# Altium footprint library SLA7073MPRT.PcbLib: 1 footprints
Each footprint in its own frame and in the unit in brackets; x right, y up, seen from the top. Pads: shape width x height; smd on the part's side, far side on the other; paste and mask are expansions set on the pad; w line width, h text height; cw(c..) or ccw(c..) is an arc to the next point about the centre after c.
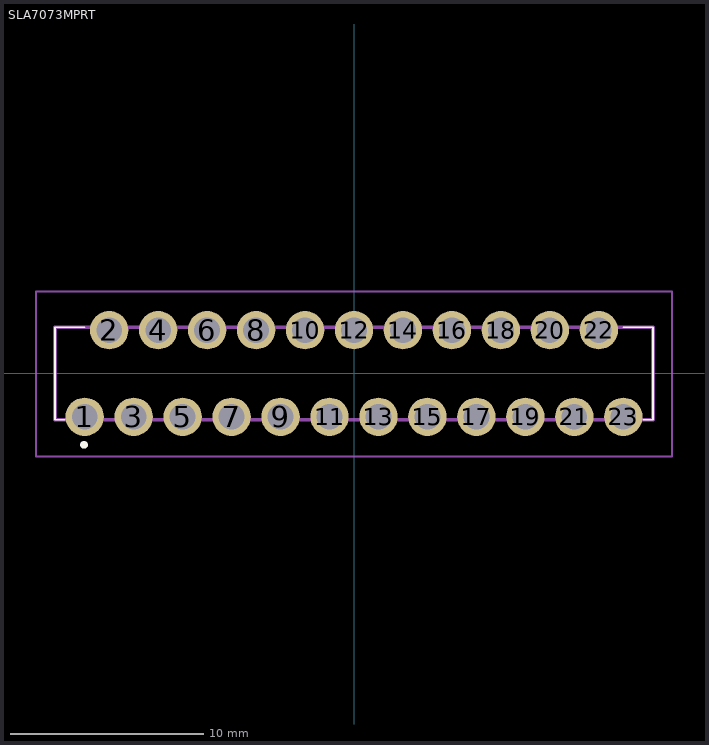
[diagram p0: the footprint, top view; thin cyan lines are the x and y axes]

## SLA7073MPRT [mm]
pads (23):
  round 1.995 hole 1.33: 1(-13.97,-2.25) 2(-12.7,2.25) 3(-11.43,-2.25) 4(-10.16,2.25) 5(-8.89,-2.25) 6(-7.62,2.25) 7(-6.35,-2.25) 8(-5.08,2.25) 9(-3.81,-2.25) 10(-2.54,2.25) 11(-1.27,-2.25) 12(0,2.25) 13(1.27,-2.25) 14(2.54,2.25) 15(3.81,-2.25) 16(5.08,2.25) 17(6.35,-2.25) 18(7.62,2.25) 19(8.89,-2.25) 20(10.16,2.25) 21(11.43,-2.25) 22(12.7,2.25) 23(13.97,-2.25)
Top Overlay:
  lines w0.1: -15,-2.4 -15.5,-2.4 -15.5,2.4 -13.97,2.4 ; 13.97,2.4 15.5,2.4 15.5,-2.4 15,-2.4
  lines w0.2: -14.1,-3.7 -14.1,-3.7 ; -14.1,-3.7 cw(c-14,-3.7) -13.9,-3.7 ; -14.1,-3.7 ccw(c-14,-3.7) -13.9,-3.7 ; -13.9,-3.7 -13.9,-3.7
Mechanical 15:
  lines w0.2: -15.5,-2.4 15.5,-2.4 15.5,2.4 -15.5,2.4 -15.5,-2.4
Mechanical 20:
  lines w0.1: -16.5,-4.3 16.5,-4.3 16.5,4.248 -16.5,4.248 -16.5,-4.3